# Altium footprint library PCBLibrary.PcbLib: 45 footprints (part 1 of 3)
Each footprint in its own frame and in the unit in brackets; x right, y up, seen from the top. Pads: shape width x height; smd on the part's side, far side on the other; paste and mask are expansions set on the pad; w line width, h text height; cw(c..) or ccw(c..) is an arc to the next point about the centre after c.
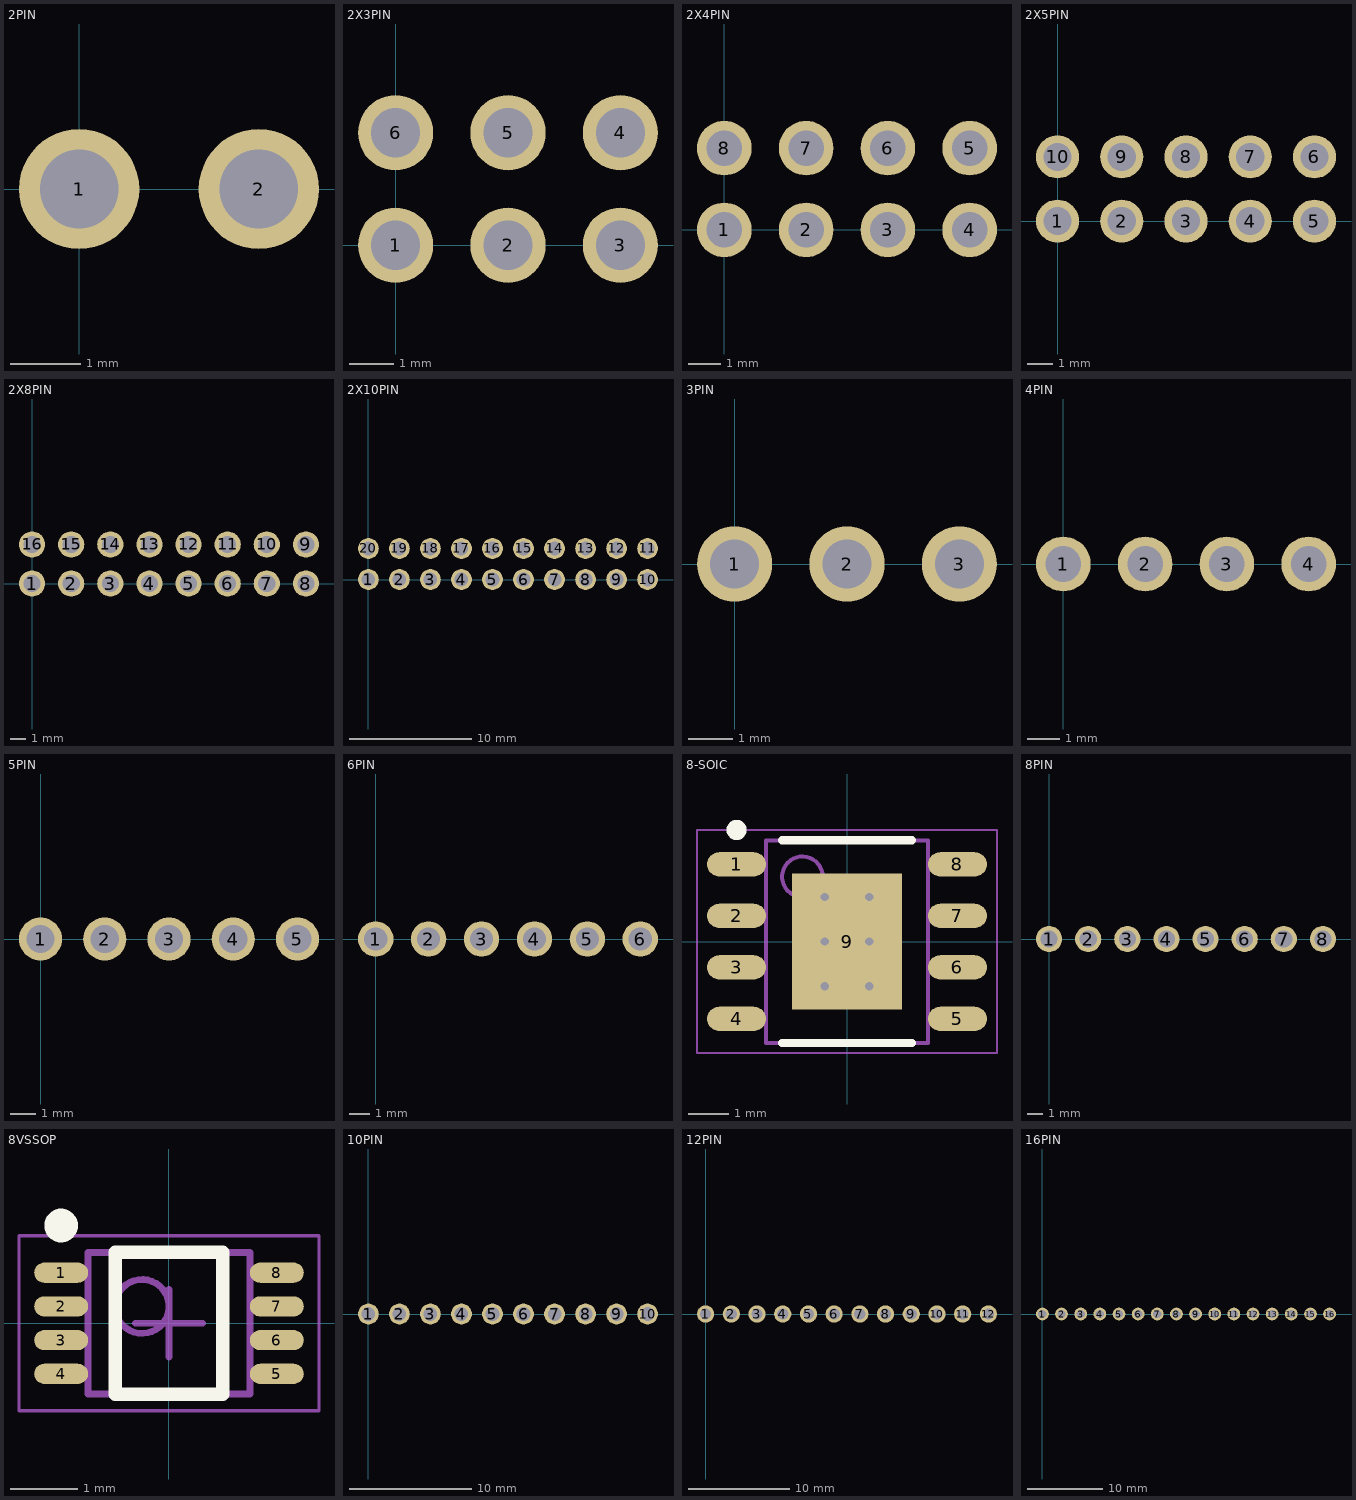
[diagram p0: the footprints below, top view; thin cyan lines are the x and y axes]

## 2PIN [mm]
pads (2):
  round 1.7 hole 1.11: 1(0,0) 2(2.54,0)
3D body "2PIN.stp": height 7.06, standoff -3.22, extent -2.483,-12.889 4.883,0.7

## 2X3PIN [mm]
pads (6):
  round 1.7 hole 1.11: 1(0,0) 2(2.54,0) 3(5.08,0) 4(5.08,2.54) 5(2.54,2.54) 6(0,2.54)
3D body "2X3PIN.stp": height 9.87, standoff -2.78, extent -2.44,-10.55 7.52,2.853

## 2X4PIN [mm]
pads (8):
  round 1.7 hole 1.11: 1(0,0) 2(2.54,0) 3(5.08,0) 4(7.62,0) 5(7.62,2.54) 6(5.08,2.54) 7(2.54,2.54) 8(0,2.54)
3D body "2X4PIN.stp": height 9.87, standoff -2.78, extent -2.45,-10.55 10.05,2.853

## 2X5PIN [mm]
pads (10):
  round 1.7 hole 1.11: 1(0,0) 2(2.54,0) 3(5.08,0) 4(7.62,0) 5(10.16,0) 6(10.16,2.54) 7(7.62,2.54) 8(5.08,2.54) 9(2.54,2.54) 10(0,2.54)
3D body "2X5PIN.stp": height 9.87, standoff -2.78, extent -2.42,-10.55 12.62,2.853

## 2X8PIN [mm]
pads (16):
  round 1.7 hole 1.11: 1(0,0) 2(2.54,0) 3(5.08,0) 4(7.62,0) 5(10.16,0) 6(12.7,0) 7(15.24,0) 8(17.78,0) 9(17.78,2.54) 10(15.24,2.54) 11(12.7,2.54) 12(10.16,2.54) 13(7.62,2.54) 14(5.08,2.54) 15(2.54,2.54) 16(0,2.54)
3D body "2X8PIN.stp": height 9.87, standoff -2.78, extent -2.36,-10.501 20.3,2.901

## 2X10PIN [mm]
pads (20):
  round 1.7 hole 1.11: 1(0,0) 2(2.54,0) 3(5.08,0) 4(7.62,0) 5(10.16,0) 6(12.7,0) 7(15.24,0) 8(17.78,0) 9(20.32,0) 10(22.86,0) 11(22.86,2.54) 12(20.32,2.54) 13(17.78,2.54) 14(15.24,2.54) 15(12.7,2.54) 16(10.16,2.54) 17(7.62,2.54) 18(5.08,2.54) 19(2.54,2.54) 20(0,2.54)
3D body "2X10PIN.stp": height 9.87, standoff -2.78, extent -2.44,-10.601 25.3,2.801

## 3PIN [mm]
pads (3):
  round 1.7 hole 1.11: 1(0,0) 2(2.54,0) 3(5.08,0)
3D body "3PIN.stp": height 7.06, standoff -3.22, extent -2.54,-12.889 7.62,0.7

## 4PIN [mm]
pads (4):
  round 1.7 hole 1.11: 1(0,0) 2(2.54,0) 3(5.08,0) 4(7.62,0)
3D body "4PIN.stp": height 7.06, standoff -3.22, extent -2.55,-12.823 10.15,0.766

## 5PIN [mm]
pads (5):
  round 1.7 hole 1.11: 1(0,0) 2(2.54,0) 3(5.08,0) 4(7.62,0) 5(10.16,0)
3D body "5PIN.stp": height 7.06, standoff -3.22, extent -2.52,-12.823 12.72,0.766

## 6PIN [mm]
pads (6):
  round 1.7 hole 1.11: 1(0,0) 2(2.54,0) 3(5.08,0) 4(7.62,0) 5(10.16,0) 6(12.7,0)
3D body "6PIN.stp": height 7.06, standoff -3.22, extent -2.48,-12.889 15.3,0.7

## 8-SOIC [mm] "SOIC, 8-Leads, Body 4.90x3.90mm, Pitch 1.27mm, Thermal Pad 3.35x2.71mm, IPC Medium Density"
height 1.7
pads (9):
  oval 1.45x0.6 smd: 1(-2.725,1.905) 2(-2.725,0.635) 3(-2.725,-0.635) 4(-2.725,-1.905) 5(2.725,-1.905) 6(2.725,-0.635) 7(2.725,0.635) 8(2.725,1.905)
  rect 2.71x3.35 smd: 9(0,0)
via 0.55,-1.1 diameter 0.5 hole 0.2
via -0.55,-1.1 diameter 0.5 hole 0.2
via 0.55,0 diameter 0.5 hole 0.2
via -0.55,0 diameter 0.5 hole 0.2
via 0.55,1.1 diameter 0.5 hole 0.2
via -0.55,1.1 diameter 0.5 hole 0.2
Top Overlay:
  circle w0.25: c-2.725,2.755 r0.125
  lines w0.2: -1.6,-2.5 1.6,-2.5 ; -1.6,2.5 1.6,2.5
Mechanical 13:
  circle w0.1: c-1.1,1.6 r0.5
  lines w0.1: -2,-2.5 2,-2.5 2,2.5 -2,2.5 -2,-2.5
Mechanical 15:
  lines w0.05: -3.7,-2.75 3.7,-2.75 3.7,2.75 -3.7,2.75 -3.7,-2.75
  lines w0.1: -0.5,0 0.5,0 ; 0,-0.5 0,0.5
3D body "SOIC127P600X170_HS-9N.step": height 1.7, standoff 0, extent -3,-2.5 3,2.5

## 8PIN [mm]
pads (8):
  round 1.7 hole 1.11: 1(0,0) 2(2.54,0) 3(5.08,0) 4(7.62,0) 5(10.16,0) 6(12.7,0) 7(15.24,0) 8(17.78,0)
3D body "8PIN.stp": height 7.06, standoff -3.22, extent -2.56,-12.889 20.3,0.7

## 8VSSOP [mm] "TSSOP, 8-Leads, Body 2.00x2.30mm, Pitch 0.50mm, IPC Medium Density"
height 0.9
pads (8):
  oval 0.8x0.3 smd: 1(-1.6,0.75) 2(-1.6,0.25) 3(-1.6,-0.25) 4(-1.6,-0.75) 5(1.6,-0.75) 6(1.6,-0.25) 7(1.6,0.25) 8(1.6,0.75)
Top Overlay:
  circle w0.25: c-1.6,1.45 r0.125
  lines w0.2: -0.8,-1.05 -0.8,1.05 0.8,1.05 0.8,-1.05 -0.8,-1.05
Mechanical 13:
  circle w0.1: c-0.4,0.25 r0.4
  lines w0.1: -1.2,-1.05 -1.2,1.05 1.2,1.05 1.2,-1.05 -1.2,-1.05
Mechanical 15:
  lines w0.05: -2.225,-1.3 -2.225,1.3 2.225,1.3 2.225,-1.3 -2.225,-1.3
  lines w0.1: -0.5,0 0.5,0 ; 0,-0.5 0,0.5
3D body "TSSOP50P310X90-8N.step": height 0.9, standoff 0, extent -1.549,-1.05 1.549,1.05

## 10PIN [mm]
pads (10):
  round 1.7 hole 1.11: 1(0,0) 2(2.54,0) 3(5.08,0) 4(7.62,0) 5(10.16,0) 6(12.7,0) 7(15.24,0) 8(17.78,0) 9(20.32,0) 10(22.86,0)
3D body "10PIN.stp": height 7.06, standoff -3.22, extent -2.54,-12.895 25.4,0.694

## 12PIN [mm]
pads (12):
  round 1.7 hole 1.11: 1(0,0) 2(2.54,0) 3(5.08,0) 4(7.62,0) 5(10.16,0) 6(12.7,0) 7(15.24,0) 8(17.78,0) 9(20.32,0) 10(22.86,0) 11(25.4,0) 12(27.94,0)
3D body "12PIN.stp": height 7.06, standoff -3.22, extent -2.52,-12.789 30.5,0.8

## 16PIN [mm]
pads (16):
  round 1.7 hole 1.11: 1(0,0) 2(2.54,0) 3(5.08,0) 4(7.62,0) 5(10.16,0) 6(12.7,0) 7(15.24,0) 8(17.78,0) 9(20.32,0) 10(22.86,0) 11(25.4,0) 12(27.94,0) 13(30.48,0) 14(33.02,0) 15(35.56,0) 16(38.1,0)
3D body "16PIN.stp": height 7.06, standoff -3.22, extent -2.48,-12.894 40.7,0.694